# Altium integrated library EAOLEDM204GGA.IntLib: 1 symbol
Pins are listed as number, name and electrical type; pins without a type are passive.

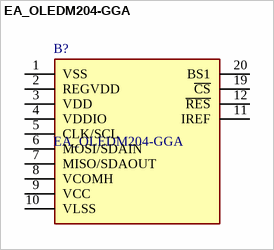
[diagram p0: symbol EA_OLEDM204-GGA]

## EA_OLEDM204-GGA
designator B?
OLED Displays & Accessories Charcter OLED Yellow 4x20 with glass; Manufacturer_Name: Display Visions; Manufacturer_Part_Number: EA OLEDM204-GGA; Geometry.Height: 2.4mm; Mouser Part Number: 790-EAOLEDM204GGA; Mouser Price/Stock: https://www.mouser.co.uk/ProductDetail/Display-Visions/EA-OLEDM204-GGA?qs=w%2Fv1CP2dgqpjPd2NeKBlNQ%3D%3D; Datasheet Link: https://www.lcd-module.de/fileadmin/html-seiten/eng/pdf/doma/oledm204-ae.pdf
footprint EAOLEDM204GGA
pins: 1 VSS, 2 REGVDD, 3 VDD, 4 VDDIO, 5 CLK/SCL, 6 MOSI/SDAIN, 7 MISO/SDAOUT, 8 VCOMH, 9 VCC, 10 VLSS, 11 IREF, 12 ~{RES}, 19 ~{CS}, 20 BS1